# Altium schematic symbol library Schlib1.SchLib: 3 symbols
Pins are listed as number, name and electrical type; pins without a type are passive.

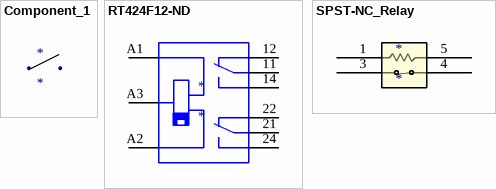
[diagram p0: symbols Component_1 to SPST-NC_Relay]

## Component_1
designator *
text: .

## RT424F12-ND
designator *
pins: 11, 12, 14, 21, 22, 24, A1, A2, A3

## SPST-NC_Relay
designator *
pins: 1, 3, 4, 5